# Altium schematic symbol library LDO_Microchip_MCP1812AT-018TT_1V8.SchLib: 1 symbol
Pins are listed as number, name and electrical type; pins without a type are passive.

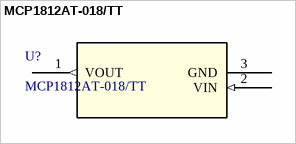
[diagram p0: symbol MCP1812AT-018/TT]

## MCP1812AT-018/TT
designator U?
LDO Voltage Regulators 1.8V 3-Lead SOT-23 300mA Ultra Low Iq LDO with Auto-Discharge; Vendor: Microchip; Built_By: EMA_Cory; SourceLibrary: Microchip_2020-03-04; Datasheet: http://ww1.microchip.com/downloads/en/DeviceDoc/MCP1811A-11B-12A-12B-Data-Sheet-20006088B.pdf; Manufacturer_Part_Number: MCP1812AT-018/TT; Copyright: Copyright (C) 2018 Accelerated Designs. All rights reserved; RefDes: RefDes; Type: DEV
footprint SOT23_TT_MCH
pins: 1 VOUT (out), 2 VIN (in), 3 GND